# Altium footprint library PS7.PcbLib: 1 footprints
Each footprint in its own frame and in the unit in brackets; x right, y up, seen from the top. Pads: shape width x height; smd on the part's side, far side on the other; paste and mask are expansions set on the pad; w line width, h text height; cw(c..) or ccw(c..) is an arc to the next point about the centre after c.
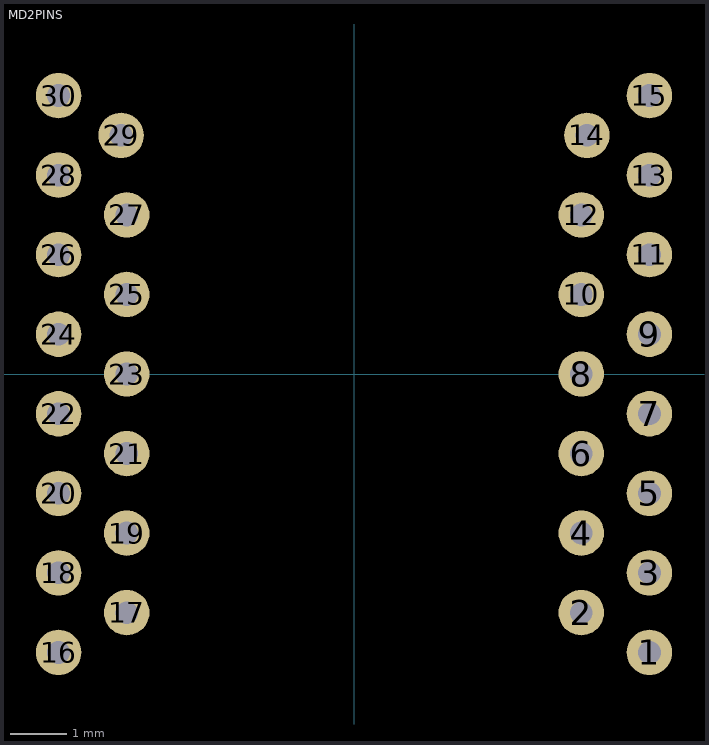
[diagram p0: the footprint, top view; thin cyan lines are the x and y axes]

## MD2PINS [mm] "MD2 pins head"
pads (30):
  round 0.8 hole 0.4: 1(5.2,-4.9) 2(4,-4.2) 3(5.2,-3.5) 4(4,-2.8) 5(5.2,-2.1) 6(4,-1.4) 7(5.2,-0.7) 8(4,0) 9(5.2,0.7) 10(4,1.4) 11(5.2,2.1) 12(4,2.8) 13(5.2,3.5) 14(4.1,4.2) 15(5.2,4.9) 16(-5.2,-4.9) 17(-4,-4.2) 18(-5.2,-3.5) 19(-4,-2.8) 20(-5.2,-2.1) 21(-4,-1.4) 22(-5.2,-0.7) 23(-4,0) 24(-5.2,0.7) 25(-4,1.4) 26(-5.2,2.1) 27(-4,2.8) 28(-5.2,3.5) 29(-4.1,4.2) 30(-5.2,4.9)